# EAGLE library part TPS5420 (library Traficon)
2A, wide input range, step-down swift converter
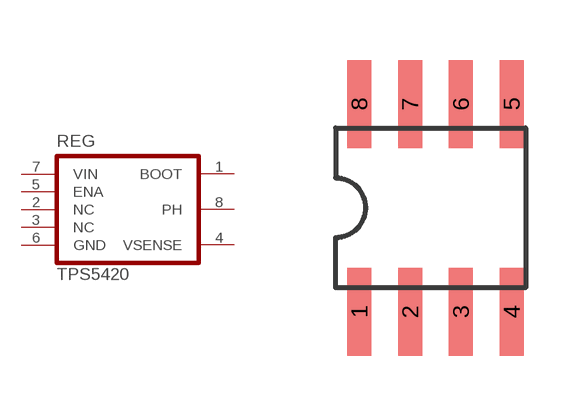
[diagram p94: symbol with the pads of SOIC8; footprint SOIC8]

Designator prefix REG

## TPS5420D  [SOIC8]
1  BOOT
2  NC
3  NC
4  VSENSE
5  ENA
6  GND
7  VIN
8  PH

## Footprint SOIC8 (pad centres in mm)
Small Outline IC
smd 0.6 x 2.2: 1 -1.905,-2.6; 2 -0.635,-2.6; 3 0.635,-2.6; 4 1.905,-2.6; 5 1.905,2.6; 6 0.635,2.6; 7 -0.635,2.6; 8 -1.905,2.6